# Altium integrated library B39162B8813P810.IntLib: 1 symbol
Pins are listed as number, name and electrical type; pins without a type are passive.

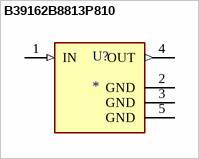
[diagram p0: symbol B39162B8813P810]

## B39162B8813P810
designator U?
SAW Filter RF 1582.47MHz 1.9dB 50Ohm SMD 5 Pin SMT; MF: RF 360; MP: B39162B8813P810; Value: *; SnapEDA_Link: https://www.snapeda.com/parts/B39162B8813P810/RF+Digital/view-part/?ref=snap; Purchase-URL: https://pricing.snapeda.com/search/part/B39162B8813P810/?ref=eda; Availability: In Stock; Price: None; Package: SMD-5 RF 360; Check_prices: https://www.snapeda.com/parts/B39162B8813P810/RF+Digital/view-part/?ref=eda
footprint FIL_B39162B9417K610
pins: 1 IN (in), 2 GND (power), 3 GND (power), 4 OUT (out), 5 GND (power)